# Altium integrated library TI_Logic_Specialty_Logic.IntLib: 2504 symbols (part 34 of 81)
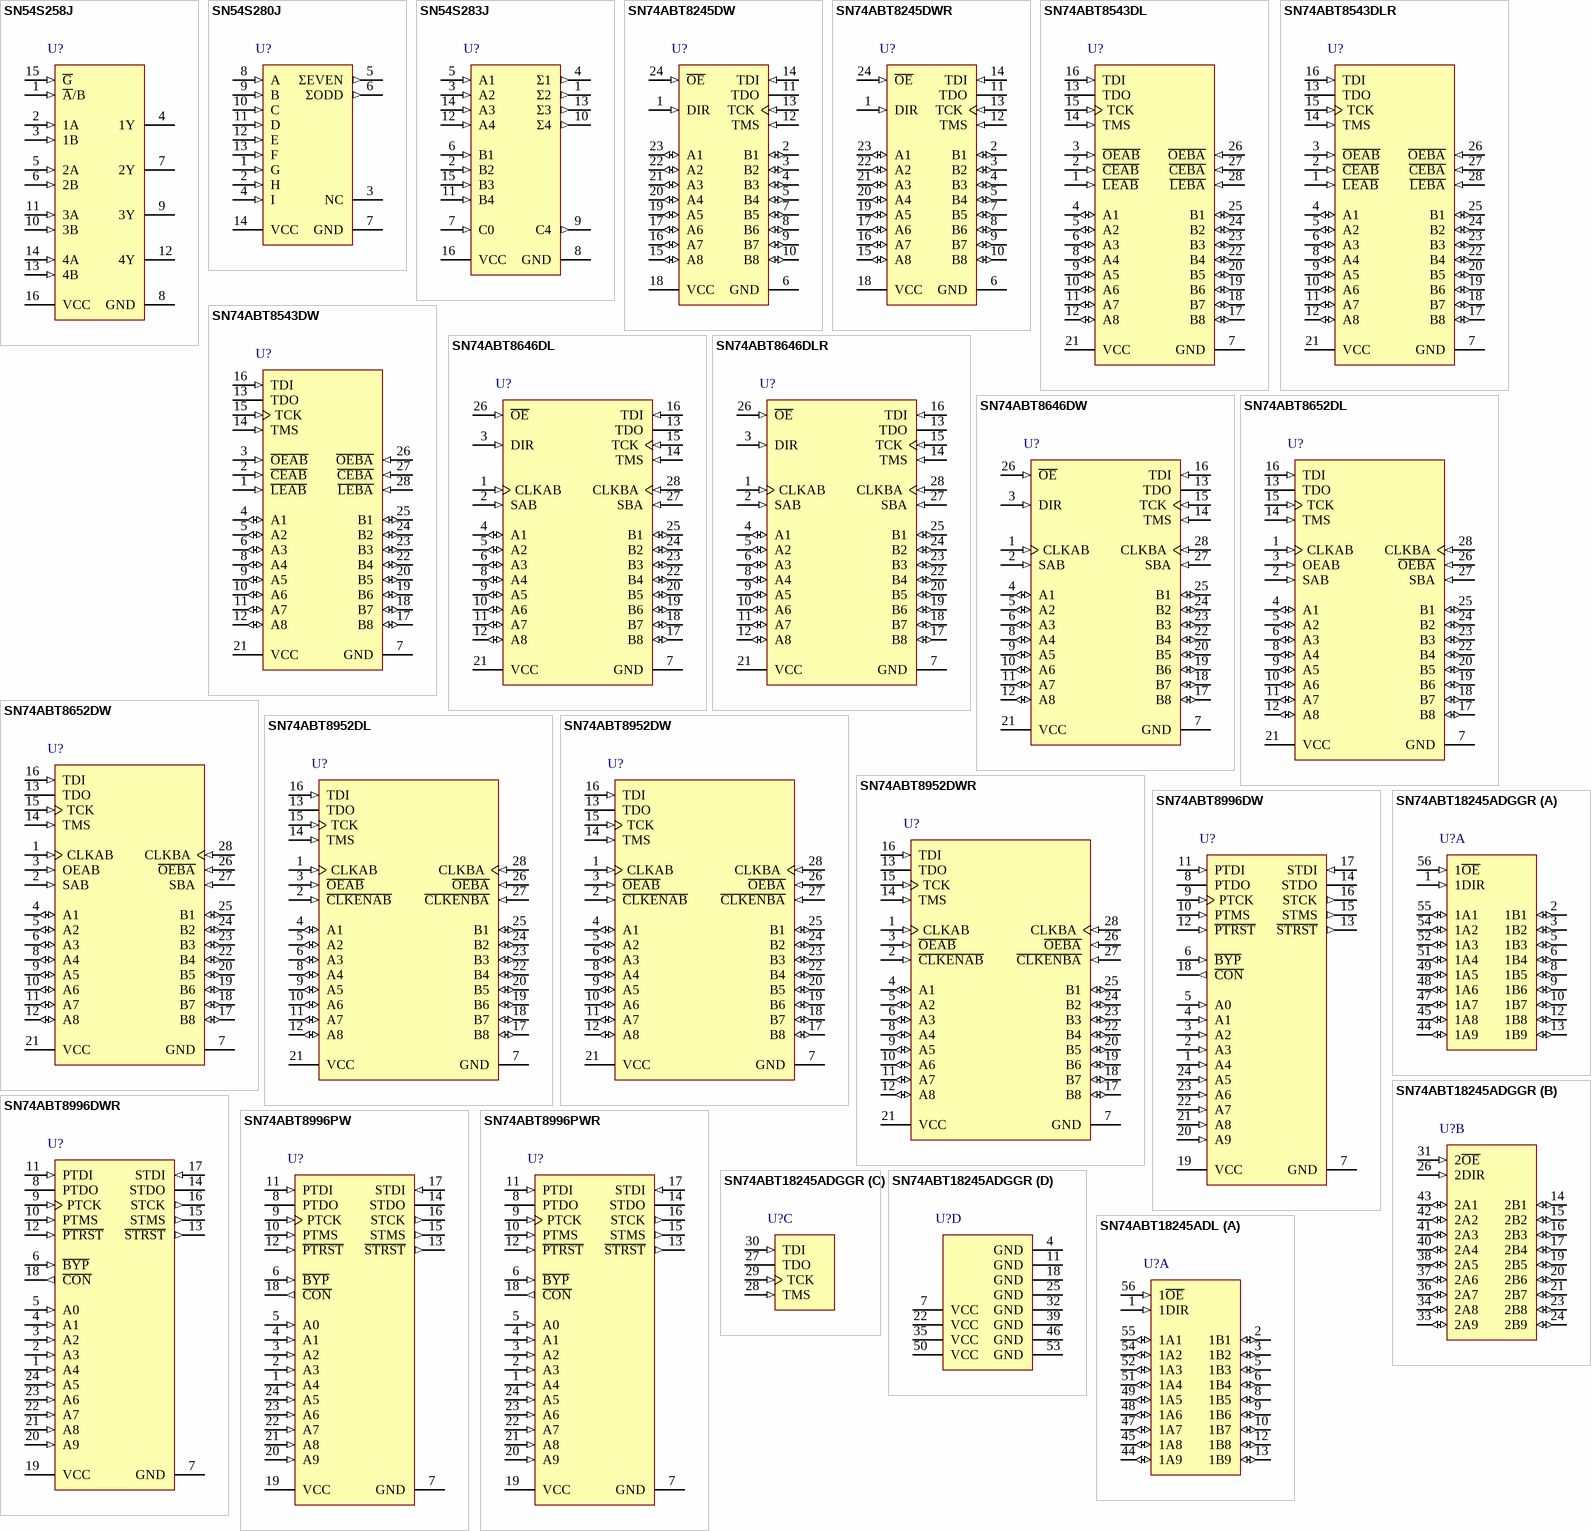
[diagram p137: symbols SN54S258J to SN74ABT18245ADL]

## SN74ABT8652DL
designator U?
Scan Test Devices With Octal Bus Transceivers And Registers, DL0028A, TUBE; Generic Part Number: SN74ABT8652; Manufacturer: Texas Instruments; PartNumber: SN74ABT8652DL; VCC(Min)(V): 4.5; VCC(Max)(V): 5.5; Output Type: TTL; ICC @ Nom Voltage(Max)(mA): 38; Bits(#): 8; F @ Nom Voltage(Max)(Mhz): 150; Rating: Catalog; Technology Family: ABT; Voltage(Nom)(V): 5; Output Drive (IOL/IOH)(Max)(mA): 64/-32; Output Logic: True; tpd @ Nom Voltage(Max)(ns): 6; DatasheetVersion: SCBS122F; PackageReference: DL0028A; Supplier 1: Mouser; Supplier Part Number 1: 595-SN74ABT8652DL; Supplier 2: Digi-Key; Supplier Part Number 2: 296-4114-5-ND; Input Type: TTL; Operating Temperature Range(C): -40 to 85; ComponentLink1Description: Manufacturer URL; ComponentLink1URL: http://www.ti.com/; ComponentLink2Description: Datasheet; ComponentLink2URL: http://www.ti.com/lit/ds/symlink/sn74abt8652.pdf
footprint DL0028A_N (SOP, 28-Leads, Body 7.6x9.7mm, Pitch 0.635mm, IPC Medium Density)
footprint DL0028A_M (SOP, 28-Leads, Body 7.6x9.7mm, Pitch 0.635mm, IPC Low Density)
footprint DL0028A_L (SOP, 28-Leads, Body 7.6x9.7mm, Pitch 0.635mm, IPC High Density)
pins: 1 CLKAB (in) "Normal-function clock inputs. See function table for normal-mode logic.", 2 SAB (in) "Normal-function select inputs. See function table for normal-mode logic.", 3 OEAB (in) "Normal-function output-enable inputs. See function table for normal-mode logic.", 4 A1 (io) "Normal-function A-bus I/O ports. See function table for normal-mode logic.", 5 A2 (io) "Normal-function A-bus I/O ports. See function table for normal-mode logic.", 6 A3 (io) "Normal-function A-bus I/O ports. See function table for normal-mode logic.", 7 GND (power) "Ground", 8 A4 (io) "Normal-function A-bus I/O ports. See function table for normal-mode logic.", 9 A5 (io) "Normal-function A-bus I/O ports. See function table for normal-mode logic.", 10 A6 (io) "Normal-function A-bus I/O ports. See function table for normal-mode logic.", 11 A7 (io) "Normal-function A-bus I/O ports. See function table for normal-mode logic.", 12 A8 (io) "Normal-function A-bus I/O ports. See function table for normal-mode logic.", 13 TDO (hiz) "Test data output. One of four terminals required by IEEE Standard 1149.1-1990. TDO is the serial output for shifting data through the instruction register or selected data register.", 14 TMS (in) "Test mode select. One of four terminals required by IEEE Standard 1149.1-1990. TMS directs the device through its TAP controller states. An internal pullup forces TMS to a high level if left unconnected.", 15 TCK (in) "Test clock. One of four terminals required by IEEE Standard 1149.1-1990. Test operations of the device are synchronous to TCK. Data is captured on the rising edge of TCK, and outputs change on the falling edge of TCK.", 16 TDI (in) "Test data input. One of four terminals required by IEEE Standard 1149.1-1990. TDI is the serial input for shifting data through the instruction register or selected data register. An internal pullup forces TDI to a high (See Datasheet)", 17 B8 (io) "Normal-function B-bus I/O ports. See function table for normal-mode logic.", 18 B7 (io) "Normal-function B-bus I/O ports. See function table for normal-mode logic.", 19 B6 (io) "Normal-function B-bus I/O ports. See function table for normal-mode logic.", 20 B5 (io) "Normal-function B-bus I/O ports. See function table for normal-mode logic.", 21 VCC (power) "Supply voltage", 22 B4 (io) "Normal-function B-bus I/O ports. See function table for normal-mode logic.", 23 B3 (io) "Normal-function B-bus I/O ports. See function table for normal-mode logic.", 24 B2 (io) "Normal-function B-bus I/O ports. See function table for normal-mode logic.", 25 B1 (io) "Normal-function B-bus I/O ports. See function table for normal-mode logic.", 26 ~{OEBA} (in) "Normal-function output-enable inputs. See function table for normal-mode logic.", 27 SBA (in) "Normal-function select inputs. See function table for normal-mode logic.", 28 CLKBA (in) "Normal-function clock inputs. See function table for normal-mode logic."

## SN74ABT8652DW
designator U?
Scan Test Devices With Octal Bus Transceivers And Registers, DW0028A, TUBE; Generic Part Number: SN74ABT8652; Manufacturer: Texas Instruments; PartNumber: SN74ABT8652DW; VCC(Min)(V): 4.5; VCC(Max)(V): 5.5; Output Type: TTL; ICC @ Nom Voltage(Max)(mA): 38; Bits(#): 8; F @ Nom Voltage(Max)(Mhz): 150; Rating: Catalog; Technology Family: ABT; Voltage(Nom)(V): 5; Output Drive (IOL/IOH)(Max)(mA): 64/-32; Output Logic: True; tpd @ Nom Voltage(Max)(ns): 6; DatasheetVersion: SCBS122F; PackageReference: DW0028A; Supplier 1: Mouser; Supplier Part Number 1: 595-SN74ABT8652DW; Supplier 2: Digi-Key; Supplier Part Number 2: 296-33634-5-ND; Input Type: TTL; Operating Temperature Range(C): -40 to 85; ComponentLink1Description: Manufacturer URL; ComponentLink1URL: http://www.ti.com/; ComponentLink2Description: Datasheet; ComponentLink2URL: http://www.ti.com/lit/ds/symlink/sn74abt8652.pdf
footprint DW0028A_N (SOIC, 28-Leads, Body 18.1x7.6mm, Pitch 1.27mm, IPC Medium Density)
footprint DW0028A_M (SOIC, 28-Leads, Body 18.1x7.6mm, Pitch 1.27mm, IPC Low Density)
footprint DW0028A_L (SOIC, 28-Leads, Body 18.1x7.6mm, Pitch 1.27mm, IPC High Density)
pins: 1 CLKAB (in) "Normal-function clock inputs. See function table for normal-mode logic.", 2 SAB (in) "Normal-function select inputs. See function table for normal-mode logic.", 3 OEAB (in) "Normal-function output-enable inputs. See function table for normal-mode logic.", 4 A1 (io) "Normal-function A-bus I/O ports. See function table for normal-mode logic.", 5 A2 (io) "Normal-function A-bus I/O ports. See function table for normal-mode logic.", 6 A3 (io) "Normal-function A-bus I/O ports. See function table for normal-mode logic.", 7 GND (power) "Ground", 8 A4 (io) "Normal-function A-bus I/O ports. See function table for normal-mode logic.", 9 A5 (io) "Normal-function A-bus I/O ports. See function table for normal-mode logic.", 10 A6 (io) "Normal-function A-bus I/O ports. See function table for normal-mode logic.", 11 A7 (io) "Normal-function A-bus I/O ports. See function table for normal-mode logic.", 12 A8 (io) "Normal-function A-bus I/O ports. See function table for normal-mode logic.", 13 TDO (hiz) "Test data output. One of four terminals required by IEEE Standard 1149.1-1990. TDO is the serial output for shifting data through the instruction register or selected data register.", 14 TMS (in) "Test mode select. One of four terminals required by IEEE Standard 1149.1-1990. TMS directs the device through its TAP controller states. An internal pullup forces TMS to a high level if left unconnected.", 15 TCK (in) "Test clock. One of four terminals required by IEEE Standard 1149.1-1990. Test operations of the device are synchronous to TCK. Data is captured on the rising edge of TCK, and outputs change on the falling edge of TCK.", 16 TDI (in) "Test data input. One of four terminals required by IEEE Standard 1149.1-1990. TDI is the serial input for shifting data through the instruction register or selected data register. An internal pullup forces TDI to a high (See Datasheet)", 17 B8 (io) "Normal-function B-bus I/O ports. See function table for normal-mode logic.", 18 B7 (io) "Normal-function B-bus I/O ports. See function table for normal-mode logic.", 19 B6 (io) "Normal-function B-bus I/O ports. See function table for normal-mode logic.", 20 B5 (io) "Normal-function B-bus I/O ports. See function table for normal-mode logic.", 21 VCC (power) "Supply voltage", 22 B4 (io) "Normal-function B-bus I/O ports. See function table for normal-mode logic.", 23 B3 (io) "Normal-function B-bus I/O ports. See function table for normal-mode logic.", 24 B2 (io) "Normal-function B-bus I/O ports. See function table for normal-mode logic.", 25 B1 (io) "Normal-function B-bus I/O ports. See function table for normal-mode logic.", 26 ~{OEBA} (in) "Normal-function output-enable inputs. See function table for normal-mode logic.", 27 SBA (in) "Normal-function select inputs. See function table for normal-mode logic.", 28 CLKBA (in) "Normal-function clock inputs. See function table for normal-mode logic."

## SN74ABT8952DL
designator U?
Scan Test Devices With Octal Registered Bus Transceivers, DL0028A, TUBE; Generic Part Number: SN74ABT8952; Manufacturer: Texas Instruments; PartNumber: SN74ABT8952DL; VCC(Min)(V): 4.5; VCC(Max)(V): 5.5; Output Type: TTL; ICC @ Nom Voltage(Max)(mA): 38; Bits(#): 8; F @ Nom Voltage(Max)(Mhz): 150; Rating: Catalog; Technology Family: ABT; Voltage(Nom)(V): 5; Output Drive (IOL/IOH)(Max)(mA): 64/-32; Output Logic: True; tpd @ Nom Voltage(Max)(ns): 6.3; DatasheetVersion: SCBS121D; PackageReference: DL0028A; Supplier 1: Mouser; Supplier Part Number 1: 595-SN74ABT8952DL; Supplier 2: Digi-Key; Supplier Part Number 2: 296-4115-5-ND; Input Type: TTL; Operating Temperature Range(C): -40 to 85; ComponentLink1Description: Manufacturer URL; ComponentLink1URL: http://www.ti.com/; ComponentLink2Description: Datasheet; ComponentLink2URL: http://www.ti.com/lit/ds/symlink/sn74abt8952.pdf
footprint DL0028A_N (SOP, 28-Leads, Body 7.6x9.7mm, Pitch 0.635mm, IPC Medium Density)
footprint DL0028A_M (SOP, 28-Leads, Body 7.6x9.7mm, Pitch 0.635mm, IPC Low Density)
footprint DL0028A_L (SOP, 28-Leads, Body 7.6x9.7mm, Pitch 0.635mm, IPC High Density)
pins: 1 CLKAB (in) "Normal-function clock inputs. See function table for normal-mode logic.", 2 ~{CLKENAB} (in) "Normal-function clock-enable inputs. See function table for normal-mode logic.", 3 ~{OEAB} (in) "Normal-function output-enable inputs. See function table for normal-mode logic.", 4 A1 (io) "Normal-function A-bus I/O ports. See function table for normal-mode logic.", 5 A2 (io) "Normal-function A-bus I/O ports. See function table for normal-mode logic.", 6 A3 (io) "Normal-function A-bus I/O ports. See function table for normal-mode logic.", 7 GND (power) "Ground", 8 A4 (io) "Normal-function A-bus I/O ports. See function table for normal-mode logic.", 9 A5 (io) "Normal-function A-bus I/O ports. See function table for normal-mode logic.", 10 A6 (io) "Normal-function A-bus I/O ports. See function table for normal-mode logic.", 11 A7 (io) "Normal-function A-bus I/O ports. See function table for normal-mode logic.", 12 A8 (io) "Normal-function A-bus I/O ports. See function table for normal-mode logic.", 13 TDO (hiz) "Test data output. One of four pins required by IEEE Standard 1149.1-1990. TDO is the serial output for shifting data through the instruction register or selected data register.", 14 TMS (in) "Test mode select. One of four pins required by IEEE Standard 1149.1-1990. TMS directs the device through its TAP controller states. An internal pullup forces TMS to a high level if left unconnected.", 15 TCK (in) "Test clock. One of four pins required by IEEE Standard 1149.1-1990. Test operations of the device are synchronous to TCK. Data is captured on the rising edge of TCK and outputs change on the falling edge of TCK.", 16 TDI (in) "Test data input. One of four pins required by IEEE Standard 1149.1-1990. TDI is the serial input for shifting data through the instruction register or selected data register. An internal pullup forces TDI to a high level if (See Datasheet)", 17 B8 (io) "Normal-function B-bus I/O ports. See function table for normal-mode logic.", 18 B7 (io) "Normal-function B-bus I/O ports. See function table for normal-mode logic.", 19 B6 (io) "Normal-function B-bus I/O ports. See function table for normal-mode logic.", 20 B5 (io) "Normal-function B-bus I/O ports. See function table for normal-mode logic.", 21 VCC (power) "Supply voltage", 22 B4 (io) "Normal-function B-bus I/O ports. See function table for normal-mode logic.", 23 B3 (io) "Normal-function B-bus I/O ports. See function table for normal-mode logic.", 24 B2 (io) "Normal-function B-bus I/O ports. See function table for normal-mode logic.", 25 B1 (io) "Normal-function B-bus I/O ports. See function table for normal-mode logic.", 26 ~{OEBA} (in) "Normal-function output-enable inputs. See function table for normal-mode logic.", 27 ~{CLKENBA} (in) "Normal-function clock-enable inputs. See function table for normal-mode logic.", 28 CLKBA (in) "Normal-function clock inputs. See function table for normal-mode logic."

## SN74ABT8952DW
designator U?
Scan Test Devices With Octal Registered Bus Transceivers, DW0028A, TUBE; Generic Part Number: SN74ABT8952; Manufacturer: Texas Instruments; PartNumber: SN74ABT8952DW; VCC(Min)(V): 4.5; VCC(Max)(V): 5.5; Output Type: TTL; ICC @ Nom Voltage(Max)(mA): 38; Bits(#): 8; F @ Nom Voltage(Max)(Mhz): 150; Rating: Catalog; Technology Family: ABT; Voltage(Nom)(V): 5; Output Drive (IOL/IOH)(Max)(mA): 64/-32; Output Logic: True; tpd @ Nom Voltage(Max)(ns): 6.3; DatasheetVersion: SCBS121D; PackageReference: DW0028A; Supplier 1: Mouser; Supplier Part Number 1: 595-SN74ABT8952DW; Supplier 2: Digi-Key; Supplier Part Number 2: 296-4116-5-ND; Input Type: TTL; Operating Temperature Range(C): -40 to 85; ComponentLink1Description: Manufacturer URL; ComponentLink1URL: http://www.ti.com/; ComponentLink2Description: Datasheet; ComponentLink2URL: http://www.ti.com/lit/ds/symlink/sn74abt8952.pdf
footprint DW0028A_N (SOIC, 28-Leads, Body 18.1x7.6mm, Pitch 1.27mm, IPC Medium Density)
footprint DW0028A_M (SOIC, 28-Leads, Body 18.1x7.6mm, Pitch 1.27mm, IPC Low Density)
footprint DW0028A_L (SOIC, 28-Leads, Body 18.1x7.6mm, Pitch 1.27mm, IPC High Density)
pins: 1 CLKAB (in) "Normal-function clock inputs. See function table for normal-mode logic.", 2 ~{CLKENAB} (in) "Normal-function clock-enable inputs. See function table for normal-mode logic.", 3 ~{OEAB} (in) "Normal-function output-enable inputs. See function table for normal-mode logic.", 4 A1 (io) "Normal-function A-bus I/O ports. See function table for normal-mode logic.", 5 A2 (io) "Normal-function A-bus I/O ports. See function table for normal-mode logic.", 6 A3 (io) "Normal-function A-bus I/O ports. See function table for normal-mode logic.", 7 GND (power) "Ground", 8 A4 (io) "Normal-function A-bus I/O ports. See function table for normal-mode logic.", 9 A5 (io) "Normal-function A-bus I/O ports. See function table for normal-mode logic.", 10 A6 (io) "Normal-function A-bus I/O ports. See function table for normal-mode logic.", 11 A7 (io) "Normal-function A-bus I/O ports. See function table for normal-mode logic.", 12 A8 (io) "Normal-function A-bus I/O ports. See function table for normal-mode logic.", 13 TDO (hiz) "Test data output. One of four pins required by IEEE Standard 1149.1-1990. TDO is the serial output for shifting data through the instruction register or selected data register.", 14 TMS (in) "Test mode select. One of four pins required by IEEE Standard 1149.1-1990. TMS directs the device through its TAP controller states. An internal pullup forces TMS to a high level if left unconnected.", 15 TCK (in) "Test clock. One of four pins required by IEEE Standard 1149.1-1990. Test operations of the device are synchronous to TCK. Data is captured on the rising edge of TCK and outputs change on the falling edge of TCK.", 16 TDI (in) "Test data input. One of four pins required by IEEE Standard 1149.1-1990. TDI is the serial input for shifting data through the instruction register or selected data register. An internal pullup forces TDI to a high level if (See Datasheet)", 17 B8 (io) "Normal-function B-bus I/O ports. See function table for normal-mode logic.", 18 B7 (io) "Normal-function B-bus I/O ports. See function table for normal-mode logic.", 19 B6 (io) "Normal-function B-bus I/O ports. See function table for normal-mode logic.", 20 B5 (io) "Normal-function B-bus I/O ports. See function table for normal-mode logic.", 21 VCC (power) "Supply voltage", 22 B4 (io) "Normal-function B-bus I/O ports. See function table for normal-mode logic.", 23 B3 (io) "Normal-function B-bus I/O ports. See function table for normal-mode logic.", 24 B2 (io) "Normal-function B-bus I/O ports. See function table for normal-mode logic.", 25 B1 (io) "Normal-function B-bus I/O ports. See function table for normal-mode logic.", 26 ~{OEBA} (in) "Normal-function output-enable inputs. See function table for normal-mode logic.", 27 ~{CLKENBA} (in) "Normal-function clock-enable inputs. See function table for normal-mode logic.", 28 CLKBA (in) "Normal-function clock inputs. See function table for normal-mode logic."

## SN74ABT8952DWR
designator U?
Scan Test Devices With Octal Registered Bus Transceivers, DW0028A, LARGE T&R; Generic Part Number: SN74ABT8952; Manufacturer: Texas Instruments; PartNumber: SN74ABT8952DWR; VCC(Min)(V): 4.5; VCC(Max)(V): 5.5; Output Type: TTL; ICC @ Nom Voltage(Max)(mA): 38; Bits(#): 8; F @ Nom Voltage(Max)(Mhz): 150; Rating: Catalog; Technology Family: ABT; Voltage(Nom)(V): 5; Output Drive (IOL/IOH)(Max)(mA): 64/-32; Output Logic: True; tpd @ Nom Voltage(Max)(ns): 6.3; DatasheetVersion: SCBS121D; PackageReference: DW0028A; Supplier 1: Mouser; Supplier Part Number 1: 595-SN74ABT8952DWR; Supplier 2: Digi-Key; Supplier Part Number 2: 296-29238-2-ND; Supplier 3: Digi-Key; Supplier Part Number 3: 296-29238-1-ND; Supplier 4: Digi-Key; Supplier Part Number 4: 296-29238-6-ND; Input Type: TTL; Operating Temperature Range(C): -40 to 85; ComponentLink1Description: Manufacturer URL; ComponentLink1URL: http://www.ti.com/; ComponentLink2Description: Datasheet; ComponentLink2URL: http://www.ti.com/lit/ds/symlink/sn74abt8952.pdf
footprint DW0028A_N (SOIC, 28-Leads, Body 18.1x7.6mm, Pitch 1.27mm, IPC Medium Density)
footprint DW0028A_M (SOIC, 28-Leads, Body 18.1x7.6mm, Pitch 1.27mm, IPC Low Density)
footprint DW0028A_L (SOIC, 28-Leads, Body 18.1x7.6mm, Pitch 1.27mm, IPC High Density)
pins: 1 CLKAB (in) "Normal-function clock inputs. See function table for normal-mode logic.", 2 ~{CLKENAB} (in) "Normal-function clock-enable inputs. See function table for normal-mode logic.", 3 ~{OEAB} (in) "Normal-function output-enable inputs. See function table for normal-mode logic.", 4 A1 (io) "Normal-function A-bus I/O ports. See function table for normal-mode logic.", 5 A2 (io) "Normal-function A-bus I/O ports. See function table for normal-mode logic.", 6 A3 (io) "Normal-function A-bus I/O ports. See function table for normal-mode logic.", 7 GND (power) "Ground", 8 A4 (io) "Normal-function A-bus I/O ports. See function table for normal-mode logic.", 9 A5 (io) "Normal-function A-bus I/O ports. See function table for normal-mode logic.", 10 A6 (io) "Normal-function A-bus I/O ports. See function table for normal-mode logic.", 11 A7 (io) "Normal-function A-bus I/O ports. See function table for normal-mode logic.", 12 A8 (io) "Normal-function A-bus I/O ports. See function table for normal-mode logic.", 13 TDO (hiz) "Test data output. One of four pins required by IEEE Standard 1149.1-1990. TDO is the serial output for shifting data through the instruction register or selected data register.", 14 TMS (in) "Test mode select. One of four pins required by IEEE Standard 1149.1-1990. TMS directs the device through its TAP controller states. An internal pullup forces TMS to a high level if left unconnected.", 15 TCK (in) "Test clock. One of four pins required by IEEE Standard 1149.1-1990. Test operations of the device are synchronous to TCK. Data is captured on the rising edge of TCK and outputs change on the falling edge of TCK.", 16 TDI (in) "Test data input. One of four pins required by IEEE Standard 1149.1-1990. TDI is the serial input for shifting data through the instruction register or selected data register. An internal pullup forces TDI to a high level if (See Datasheet)", 17 B8 (io) "Normal-function B-bus I/O ports. See function table for normal-mode logic.", 18 B7 (io) "Normal-function B-bus I/O ports. See function table for normal-mode logic.", 19 B6 (io) "Normal-function B-bus I/O ports. See function table for normal-mode logic.", 20 B5 (io) "Normal-function B-bus I/O ports. See function table for normal-mode logic.", 21 VCC (power) "Supply voltage", 22 B4 (io) "Normal-function B-bus I/O ports. See function table for normal-mode logic.", 23 B3 (io) "Normal-function B-bus I/O ports. See function table for normal-mode logic.", 24 B2 (io) "Normal-function B-bus I/O ports. See function table for normal-mode logic.", 25 B1 (io) "Normal-function B-bus I/O ports. See function table for normal-mode logic.", 26 ~{OEBA} (in) "Normal-function output-enable inputs. See function table for normal-mode logic.", 27 ~{CLKENBA} (in) "Normal-function clock-enable inputs. See function table for normal-mode logic.", 28 CLKBA (in) "Normal-function clock inputs. See function table for normal-mode logic."

## SN74ABT8996DW
designator U?
10-Bit Addressable Scan Ports Multidrop-Addressable IEEE STD 1194.1 (JTAG) TAP Transceivers, DW0024A, TUBE; Generic Part Number: SN74ABT8996; Manufacturer: Texas Instruments; PartNumber: SN74ABT8996DW; VCC(Min)(V): 4.5; VCC(Max)(V): 5.5; Output Type: TTL; Rating: Catalog; Technology Family: ABT; DatasheetVersion: SCBS489C; PackageReference: DW0024A; Supplier 1: Mouser; Supplier Part Number 1: 595-SN74ABT8996DW; Supplier 2: Digi-Key; Supplier Part Number 2: 296-4117-5-ND; Input Type: TTL; Operating Temperature Range(C): -40 to 85; ComponentLink1Description: Manufacturer URL; ComponentLink1URL: http://www.ti.com/; ComponentLink2Description: Datasheet; ComponentLink2URL: http://www.ti.com/lit/ds/symlink/sn74abt8996.pdf
footprint DW0024A_N (SOIC, 24-Leads, Body 15.6x7.6mm, Pitch 1.27mm, IPC Medium Density)
footprint DW0024A_M (SOIC, 24-Leads, Body 15.6x7.6mm, Pitch 1.27mm, IPC Low Density)
footprint DW0024A_L (SOIC, 24-Leads, Body 15.6x7.6mm, Pitch 1.27mm, IPC High Density)
pins: 1 A4 (in) "Address inputs. The ASP compares addresses received via shadow protocol against the value at A9-A0 to determine address match. The bit order is from most significant to least significant. An internal pullup at each A9-A0 (See Datasheet)", 2 A3 (in) "Address inputs. The ASP compares addresses received via shadow protocol against the value at A9-A0 to determine address match. The bit order is from most significant to least significant. An internal pullup at each A9-A0 (See Datasheet)", 3 A2 (in) "Address inputs. The ASP compares addresses received via shadow protocol against the value at A9-A0 to determine address match. The bit order is from most significant to least significant. An internal pullup at each A9-A0 (See Datasheet)", 4 A1 (in) "Address inputs. The ASP compares addresses received via shadow protocol against the value at A9-A0 to determine address match. The bit order is from most significant to least significant. An internal pullup at each A9-A0 (See Datasheet)", 5 A0 (in) "Address inputs. The ASP compares addresses received via shadow protocol against the value at A9-A0 to determine address match. The bit order is from most significant to least significant. An internal pullup at each A9-A0 (See Datasheet)", 6 ~{BYP} (in) "Bypass input. A low input at B\Y\P\ forces the ASP into BYP or BYP/TRST status, depending on P\T\R\S\T\ being high or low, respectively. While B\Y\P\ is low, shadow protocols are ignored. Otherwise, while B\Y\P\ is high, the (See Datasheet)", 7 GND (power) "Ground", 8 PTDO (hiz) "Primary test data output. PTDO transmits the TDO signal required by IEEE Standard 1149.1-1990. During shadow protocols, the ASP transmits any required acknowledgement via the PTDO. The acknowledgement data output at PTDO (See Datasheet)", 9 PTCK (in) "Primary test clock. PTCK receives the TCK signal required by IEEE Standard 1149.1-1990. The ASP always buffers PTCK to STCK. Shadow protocols are received/acknowledged synchronously to PTCK and connect-status changes invoked (See Datasheet)", 10 PTMS (in) "Primary test mode select. PTMS receives the TMS signal required by IEEE Standard 1149.1-1990. The ASP monitors the PTMS to determine the TAP-controller state. During stable TAP states other than Shift-DR or Shift-IR (i.e.(See Datasheet)", 11 PTDI (in) "Primary test data input. PTDI receives the TDI signal required by IEEE Standard 1149.1-1990. During appropriate TAP states, the ASP monitors PTDI for shadow protocols. During shadow protocols, data at PTDI is captured on the (See Datasheet)", 12 ~{PTRST} (in) "Primary test reset. P\T\R\S\T\ receives the T\R\S\T\ signal allowed by IEEE Standard 1149.1-1990. The ASP always buffers P\T\R\S\T\ to S\T\R\S\T\. A low input at PTRST forces the ASP to assume TRST or BYP/TRST status, (See Datasheet)", 13 ~{STRST} (out) "Secondary test reset. S\T\R\S\T\ retransmits the T\R\S\T\ signal allowed by IEEE Standard 1149.1-1990. The ASP always buffers S\T\R\S\T\ from P\T\R\S\T\.", 14 STDO (hiz) "Secondary test data output. STDO transmits the TDO signal required by IEEE Standard 1149.1-1990. Under BYP,BYP/TRST, MULTICAST, or ON status, the ASP buffers STDO from PTDI. Under OFF, RESET, or TRST status, STDO is at high (See Datasheet)", 15 STMS (out) "Secondary test mode select. STMS retransmits the TMS signal required by IEEE Standard 1149.1-1990. Under BYP,MULTICAST, or ON status, the ASP buffers STMS from PTMS. When disconnected (as a result of OFF status), STMS (See Datasheet)", 16 STCK (out) "Secondary test clock. STCK retransmits the TCK signal required by IEEE Standard 1149.1-1990. The ASP always buffers STCK from PTCK.", 17 STDI (in) "Secondary test data input. STDI receives the TDI signal required by IEEE Standard 1149.1-1990. Under BYP,BYP/TRST, or ON status, the ASP buffers STDI to PTDO. An internal pullup forces STDI to a high level if it has no (See Datasheet)", 18 ~{CON} (out) "Connect indicator (output). The ASP indicates secondary-scan-port activity (resulting from BYP, BYP/TRST,MULTICAST, or ON status) by forcing CON to be low. Inactivity (resulting from OFF, RESET, or TRST status) is indicated (See Datasheet)", 19 VCC (power) "Supply voltage", 20 A9 (in) "Address inputs. The ASP compares addresses received via shadow protocol against the value at A9-A0 to determine address match. The bit order is from most significant to least significant. An internal pullup at each A9-A0 (See Datasheet)", 21 A8 (in) "Address inputs. The ASP compares addresses received via shadow protocol against the value at A9-A0 to determine address match. The bit order is from most significant to least significant. An internal pullup at each A9-A0 (See Datasheet)", 22 A7 (in) "Address inputs. The ASP compares addresses received via shadow protocol against the value at A9-A0 to determine address match. The bit order is from most significant to least significant. An internal pullup at each A9-A0 (See Datasheet)", 23 A6 (in) "Address inputs. The ASP compares addresses received via shadow protocol against the value at A9-A0 to determine address match. The bit order is from most significant to least significant. An internal pullup at each A9-A0 (See Datasheet)", 24 A5 (in) "Address inputs. The ASP compares addresses received via shadow protocol against the value at A9-A0 to determine address match. The bit order is from most significant to least significant. An internal pullup at each A9-A0 (See Datasheet)"

## SN74ABT8996DWR
designator U?
10-Bit Addressable Scan Ports Multidrop-Addressable IEEE STD 1194.1 (JTAG) TAP Transceivers, DW0024A, LARGE T&R; Generic Part Number: SN74ABT8996; Manufacturer: Texas Instruments; PartNumber: SN74ABT8996DWR; VCC(Min)(V): 4.5; VCC(Max)(V): 5.5; Output Type: TTL; Rating: Catalog; Technology Family: ABT; DatasheetVersion: SCBS489C; PackageReference: DW0024A; Supplier 1: Mouser; Supplier Part Number 1: 595-SN74ABT8996DWR; Supplier 2: Digi-Key; Supplier Part Number 2: 296-4117-2-ND; Supplier 3: Digi-Key; Supplier Part Number 3: 296-4117-1-ND; Supplier 4: Digi-Key; Supplier Part Number 4: 296-4117-6-ND; Input Type: TTL; Operating Temperature Range(C): -40 to 85; ComponentLink1Description: Manufacturer URL; ComponentLink1URL: http://www.ti.com/; ComponentLink2Description: Datasheet; ComponentLink2URL: http://www.ti.com/lit/ds/symlink/sn74abt8996.pdf
footprint DW0024A_N (SOIC, 24-Leads, Body 15.6x7.6mm, Pitch 1.27mm, IPC Medium Density)
footprint DW0024A_M (SOIC, 24-Leads, Body 15.6x7.6mm, Pitch 1.27mm, IPC Low Density)
footprint DW0024A_L (SOIC, 24-Leads, Body 15.6x7.6mm, Pitch 1.27mm, IPC High Density)
pins: 1 A4 (in) "Address inputs. The ASP compares addresses received via shadow protocol against the value at A9-A0 to determine address match. The bit order is from most significant to least significant. An internal pullup at each A9-A0 (See Datasheet)", 2 A3 (in) "Address inputs. The ASP compares addresses received via shadow protocol against the value at A9-A0 to determine address match. The bit order is from most significant to least significant. An internal pullup at each A9-A0 (See Datasheet)", 3 A2 (in) "Address inputs. The ASP compares addresses received via shadow protocol against the value at A9-A0 to determine address match. The bit order is from most significant to least significant. An internal pullup at each A9-A0 (See Datasheet)", 4 A1 (in) "Address inputs. The ASP compares addresses received via shadow protocol against the value at A9-A0 to determine address match. The bit order is from most significant to least significant. An internal pullup at each A9-A0 (See Datasheet)", 5 A0 (in) "Address inputs. The ASP compares addresses received via shadow protocol against the value at A9-A0 to determine address match. The bit order is from most significant to least significant. An internal pullup at each A9-A0 (See Datasheet)", 6 ~{BYP} (in) "Bypass input. A low input at B\Y\P\ forces the ASP into BYP or BYP/TRST status, depending on P\T\R\S\T\ being high or low, respectively. While B\Y\P\ is low, shadow protocols are ignored. Otherwise, while B\Y\P\ is high, the (See Datasheet)", 7 GND (power) "Ground", 8 PTDO (hiz) "Primary test data output. PTDO transmits the TDO signal required by IEEE Standard 1149.1-1990. During shadow protocols, the ASP transmits any required acknowledgement via the PTDO. The acknowledgement data output at PTDO (See Datasheet)", 9 PTCK (in) "Primary test clock. PTCK receives the TCK signal required by IEEE Standard 1149.1-1990. The ASP always buffers PTCK to STCK. Shadow protocols are received/acknowledged synchronously to PTCK and connect-status changes invoked (See Datasheet)", 10 PTMS (in) "Primary test mode select. PTMS receives the TMS signal required by IEEE Standard 1149.1-1990. The ASP monitors the PTMS to determine the TAP-controller state. During stable TAP states other than Shift-DR or Shift-IR (i.e.(See Datasheet)", 11 PTDI (in) "Primary test data input. PTDI receives the TDI signal required by IEEE Standard 1149.1-1990. During appropriate TAP states, the ASP monitors PTDI for shadow protocols. During shadow protocols, data at PTDI is captured on the (See Datasheet)", 12 ~{PTRST} (in) "Primary test reset. P\T\R\S\T\ receives the T\R\S\T\ signal allowed by IEEE Standard 1149.1-1990. The ASP always buffers P\T\R\S\T\ to S\T\R\S\T\. A low input at PTRST forces the ASP to assume TRST or BYP/TRST status, (See Datasheet)", 13 ~{STRST} (out) "Secondary test reset. S\T\R\S\T\ retransmits the T\R\S\T\ signal allowed by IEEE Standard 1149.1-1990. The ASP always buffers S\T\R\S\T\ from P\T\R\S\T\.", 14 STDO (hiz) "Secondary test data output. STDO transmits the TDO signal required by IEEE Standard 1149.1-1990. Under BYP,BYP/TRST, MULTICAST, or ON status, the ASP buffers STDO from PTDI. Under OFF, RESET, or TRST status, STDO is at high (See Datasheet)", 15 STMS (out) "Secondary test mode select. STMS retransmits the TMS signal required by IEEE Standard 1149.1-1990. Under BYP,MULTICAST, or ON status, the ASP buffers STMS from PTMS. When disconnected (as a result of OFF status), STMS (See Datasheet)", 16 STCK (out) "Secondary test clock. STCK retransmits the TCK signal required by IEEE Standard 1149.1-1990. The ASP always buffers STCK from PTCK.", 17 STDI (in) "Secondary test data input. STDI receives the TDI signal required by IEEE Standard 1149.1-1990. Under BYP,BYP/TRST, or ON status, the ASP buffers STDI to PTDO. An internal pullup forces STDI to a high level if it has no (See Datasheet)", 18 ~{CON} (out) "Connect indicator (output). The ASP indicates secondary-scan-port activity (resulting from BYP, BYP/TRST,MULTICAST, or ON status) by forcing CON to be low. Inactivity (resulting from OFF, RESET, or TRST status) is indicated (See Datasheet)", 19 VCC (power) "Supply voltage", 20 A9 (in) "Address inputs. The ASP compares addresses received via shadow protocol against the value at A9-A0 to determine address match. The bit order is from most significant to least significant. An internal pullup at each A9-A0 (See Datasheet)", 21 A8 (in) "Address inputs. The ASP compares addresses received via shadow protocol against the value at A9-A0 to determine address match. The bit order is from most significant to least significant. An internal pullup at each A9-A0 (See Datasheet)", 22 A7 (in) "Address inputs. The ASP compares addresses received via shadow protocol against the value at A9-A0 to determine address match. The bit order is from most significant to least significant. An internal pullup at each A9-A0 (See Datasheet)", 23 A6 (in) "Address inputs. The ASP compares addresses received via shadow protocol against the value at A9-A0 to determine address match. The bit order is from most significant to least significant. An internal pullup at each A9-A0 (See Datasheet)", 24 A5 (in) "Address inputs. The ASP compares addresses received via shadow protocol against the value at A9-A0 to determine address match. The bit order is from most significant to least significant. An internal pullup at each A9-A0 (See Datasheet)"

## SN74ABT8996PW
designator U?
10-Bit Addressable Scan Ports Multidrop-Addressable IEEE STD 1194.1 (JTAG) TAP Transceivers, PW0024A, TUBE; Generic Part Number: SN74ABT8996; Manufacturer: Texas Instruments; PartNumber: SN74ABT8996PW; VCC(Min)(V): 4.5; VCC(Max)(V): 5.5; Output Type: TTL; Rating: Catalog; Technology Family: ABT; DatasheetVersion: SCBS489C; PackageReference: PW0024A; Supplier 1: Mouser; Supplier Part Number 1: 595-SN74ABT8996PW; Supplier 2: Digi-Key; Supplier Part Number 2: SN74ABT8996PW-ND; Input Type: TTL; Operating Temperature Range(C): -40 to 85; ComponentLink1Description: Manufacturer URL; ComponentLink1URL: http://www.ti.com/; ComponentLink2Description: Datasheet; ComponentLink2URL: http://www.ti.com/lit/ds/symlink/sn74abt8996.pdf
footprint PW0024A_N (SOP, 24-Leads, Body 7.9x4.5mm, Pitch 0.65mm, IPC Medium Density)
footprint PW0024A_M (SOP, 24-Leads, Body 7.9x4.5mm, Pitch 0.65mm, IPC Low Density)
footprint PW0024A_L (SOP, 24-Leads, Body 7.9x4.5mm, Pitch 0.65mm, IPC High Density)
pins: 1 A4 (in) "Address inputs. The ASP compares addresses received via shadow protocol against the value at A9-A0 to determine address match. The bit order is from most significant to least significant. An internal pullup at each A9-A0 (See Datasheet)", 2 A3 (in) "Address inputs. The ASP compares addresses received via shadow protocol against the value at A9-A0 to determine address match. The bit order is from most significant to least significant. An internal pullup at each A9-A0 (See Datasheet)", 3 A2 (in) "Address inputs. The ASP compares addresses received via shadow protocol against the value at A9-A0 to determine address match. The bit order is from most significant to least significant. An internal pullup at each A9-A0 (See Datasheet)", 4 A1 (in) "Address inputs. The ASP compares addresses received via shadow protocol against the value at A9-A0 to determine address match. The bit order is from most significant to least significant. An internal pullup at each A9-A0 (See Datasheet)", 5 A0 (in) "Address inputs. The ASP compares addresses received via shadow protocol against the value at A9-A0 to determine address match. The bit order is from most significant to least significant. An internal pullup at each A9-A0 (See Datasheet)", 6 ~{BYP} (in) "Bypass input. A low input at B\Y\P\ forces the ASP into BYP or BYP/TRST status, depending on P\T\R\S\T\ being high or low, respectively. While B\Y\P\ is low, shadow protocols are ignored. Otherwise, while B\Y\P\ is high, the (See Datasheet)", 7 GND (power) "Ground", 8 PTDO (hiz) "Primary test data output. PTDO transmits the TDO signal required by IEEE Standard 1149.1-1990. During shadow protocols, the ASP transmits any required acknowledgement via the PTDO. The acknowledgement data output at PTDO (See Datasheet)", 9 PTCK (in) "Primary test clock. PTCK receives the TCK signal required by IEEE Standard 1149.1-1990. The ASP always buffers PTCK to STCK. Shadow protocols are received/acknowledged synchronously to PTCK and connect-status changes invoked (See Datasheet)", 10 PTMS (in) "Primary test mode select. PTMS receives the TMS signal required by IEEE Standard 1149.1-1990. The ASP monitors the PTMS to determine the TAP-controller state. During stable TAP states other than Shift-DR or Shift-IR (i.e.(See Datasheet)", 11 PTDI (in) "Primary test data input. PTDI receives the TDI signal required by IEEE Standard 1149.1-1990. During appropriate TAP states, the ASP monitors PTDI for shadow protocols. During shadow protocols, data at PTDI is captured on the (See Datasheet)", 12 ~{PTRST} (in) "Primary test reset. P\T\R\S\T\ receives the T\R\S\T\ signal allowed by IEEE Standard 1149.1-1990. The ASP always buffers P\T\R\S\T\ to S\T\R\S\T\. A low input at PTRST forces the ASP to assume TRST or BYP/TRST status, (See Datasheet)", 13 ~{STRST} (out) "Secondary test reset. S\T\R\S\T\ retransmits the T\R\S\T\ signal allowed by IEEE Standard 1149.1-1990. The ASP always buffers S\T\R\S\T\ from P\T\R\S\T\.", 14 STDO (hiz) "Secondary test data output. STDO transmits the TDO signal required by IEEE Standard 1149.1-1990. Under BYP,BYP/TRST, MULTICAST, or ON status, the ASP buffers STDO from PTDI. Under OFF, RESET, or TRST status, STDO is at high (See Datasheet)", 15 STMS (out) "Secondary test mode select. STMS retransmits the TMS signal required by IEEE Standard 1149.1-1990. Under BYP,MULTICAST, or ON status, the ASP buffers STMS from PTMS. When disconnected (as a result of OFF status), STMS (See Datasheet)", 16 STCK (out) "Secondary test clock. STCK retransmits the TCK signal required by IEEE Standard 1149.1-1990. The ASP always buffers STCK from PTCK.", 17 STDI (in) "Secondary test data input. STDI receives the TDI signal required by IEEE Standard 1149.1-1990. Under BYP,BYP/TRST, or ON status, the ASP buffers STDI to PTDO. An internal pullup forces STDI to a high level if it has no (See Datasheet)", 18 ~{CON} (out) "Connect indicator (output). The ASP indicates secondary-scan-port activity (resulting from BYP, BYP/TRST,MULTICAST, or ON status) by forcing CON to be low. Inactivity (resulting from OFF, RESET, or TRST status) is indicated (See Datasheet)", 19 VCC (power) "Supply voltage", 20 A9 (in) "Address inputs. The ASP compares addresses received via shadow protocol against the value at A9-A0 to determine address match. The bit order is from most significant to least significant. An internal pullup at each A9-A0 (See Datasheet)", 21 A8 (in) "Address inputs. The ASP compares addresses received via shadow protocol against the value at A9-A0 to determine address match. The bit order is from most significant to least significant. An internal pullup at each A9-A0 (See Datasheet)", 22 A7 (in) "Address inputs. The ASP compares addresses received via shadow protocol against the value at A9-A0 to determine address match. The bit order is from most significant to least significant. An internal pullup at each A9-A0 (See Datasheet)", 23 A6 (in) "Address inputs. The ASP compares addresses received via shadow protocol against the value at A9-A0 to determine address match. The bit order is from most significant to least significant. An internal pullup at each A9-A0 (See Datasheet)", 24 A5 (in) "Address inputs. The ASP compares addresses received via shadow protocol against the value at A9-A0 to determine address match. The bit order is from most significant to least significant. An internal pullup at each A9-A0 (See Datasheet)"

## SN74ABT8996PWR
designator U?
10-Bit Addressable Scan Ports Multidrop-Addressable IEEE STD 1194.1 (JTAG) TAP Transceivers, PW0024A, LARGE T&R; Generic Part Number: SN74ABT8996; Manufacturer: Texas Instruments; PartNumber: SN74ABT8996PWR; VCC(Min)(V): 4.5; VCC(Max)(V): 5.5; Output Type: TTL; Rating: Catalog; Technology Family: ABT; DatasheetVersion: SCBS489C; PackageReference: PW0024A; Supplier 1: Mouser; Supplier Part Number 1: 595-SN74ABT8996PWR; Supplier 2: Digi-Key; Supplier Part Number 2: 296-4118-2-ND; Supplier 3: Digi-Key; Supplier Part Number 3: 296-4118-1-ND; Supplier 4: Digi-Key; Supplier Part Number 4: 296-4118-6-ND; Input Type: TTL; Operating Temperature Range(C): -40 to 85; ComponentLink1Description: Manufacturer URL; ComponentLink1URL: http://www.ti.com/; ComponentLink2Description: Datasheet; ComponentLink2URL: http://www.ti.com/lit/ds/symlink/sn74abt8996.pdf
footprint PW0024A_N (SOP, 24-Leads, Body 7.9x4.5mm, Pitch 0.65mm, IPC Medium Density)
footprint PW0024A_M (SOP, 24-Leads, Body 7.9x4.5mm, Pitch 0.65mm, IPC Low Density)
footprint PW0024A_L (SOP, 24-Leads, Body 7.9x4.5mm, Pitch 0.65mm, IPC High Density)
pins: 1 A4 (in) "Address inputs. The ASP compares addresses received via shadow protocol against the value at A9-A0 to determine address match. The bit order is from most significant to least significant. An internal pullup at each A9-A0 (See Datasheet)", 2 A3 (in) "Address inputs. The ASP compares addresses received via shadow protocol against the value at A9-A0 to determine address match. The bit order is from most significant to least significant. An internal pullup at each A9-A0 (See Datasheet)", 3 A2 (in) "Address inputs. The ASP compares addresses received via shadow protocol against the value at A9-A0 to determine address match. The bit order is from most significant to least significant. An internal pullup at each A9-A0 (See Datasheet)", 4 A1 (in) "Address inputs. The ASP compares addresses received via shadow protocol against the value at A9-A0 to determine address match. The bit order is from most significant to least significant. An internal pullup at each A9-A0 (See Datasheet)", 5 A0 (in) "Address inputs. The ASP compares addresses received via shadow protocol against the value at A9-A0 to determine address match. The bit order is from most significant to least significant. An internal pullup at each A9-A0 (See Datasheet)", 6 ~{BYP} (in) "Bypass input. A low input at B\Y\P\ forces the ASP into BYP or BYP/TRST status, depending on P\T\R\S\T\ being high or low, respectively. While B\Y\P\ is low, shadow protocols are ignored. Otherwise, while B\Y\P\ is high, the (See Datasheet)", 7 GND (power) "Ground", 8 PTDO (hiz) "Primary test data output. PTDO transmits the TDO signal required by IEEE Standard 1149.1-1990. During shadow protocols, the ASP transmits any required acknowledgement via the PTDO. The acknowledgement data output at PTDO (See Datasheet)", 9 PTCK (in) "Primary test clock. PTCK receives the TCK signal required by IEEE Standard 1149.1-1990. The ASP always buffers PTCK to STCK. Shadow protocols are received/acknowledged synchronously to PTCK and connect-status changes invoked (See Datasheet)", 10 PTMS (in) "Primary test mode select. PTMS receives the TMS signal required by IEEE Standard 1149.1-1990. The ASP monitors the PTMS to determine the TAP-controller state. During stable TAP states other than Shift-DR or Shift-IR (i.e.(See Datasheet)", 11 PTDI (in) "Primary test data input. PTDI receives the TDI signal required by IEEE Standard 1149.1-1990. During appropriate TAP states, the ASP monitors PTDI for shadow protocols. During shadow protocols, data at PTDI is captured on the (See Datasheet)", 12 ~{PTRST} (in) "Primary test reset. P\T\R\S\T\ receives the T\R\S\T\ signal allowed by IEEE Standard 1149.1-1990. The ASP always buffers P\T\R\S\T\ to S\T\R\S\T\. A low input at PTRST forces the ASP to assume TRST or BYP/TRST status, (See Datasheet)", 13 ~{STRST} (out) "Secondary test reset. S\T\R\S\T\ retransmits the T\R\S\T\ signal allowed by IEEE Standard 1149.1-1990. The ASP always buffers S\T\R\S\T\ from P\T\R\S\T\.", 14 STDO (hiz) "Secondary test data output. STDO transmits the TDO signal required by IEEE Standard 1149.1-1990. Under BYP,BYP/TRST, MULTICAST, or ON status, the ASP buffers STDO from PTDI. Under OFF, RESET, or TRST status, STDO is at high (See Datasheet)", 15 STMS (out) "Secondary test mode select. STMS retransmits the TMS signal required by IEEE Standard 1149.1-1990. Under BYP,MULTICAST, or ON status, the ASP buffers STMS from PTMS. When disconnected (as a result of OFF status), STMS (See Datasheet)", 16 STCK (out) "Secondary test clock. STCK retransmits the TCK signal required by IEEE Standard 1149.1-1990. The ASP always buffers STCK from PTCK.", 17 STDI (in) "Secondary test data input. STDI receives the TDI signal required by IEEE Standard 1149.1-1990. Under BYP,BYP/TRST, or ON status, the ASP buffers STDI to PTDO. An internal pullup forces STDI to a high level if it has no (See Datasheet)", 18 ~{CON} (out) "Connect indicator (output). The ASP indicates secondary-scan-port activity (resulting from BYP, BYP/TRST,MULTICAST, or ON status) by forcing CON to be low. Inactivity (resulting from OFF, RESET, or TRST status) is indicated (See Datasheet)", 19 VCC (power) "Supply voltage", 20 A9 (in) "Address inputs. The ASP compares addresses received via shadow protocol against the value at A9-A0 to determine address match. The bit order is from most significant to least significant. An internal pullup at each A9-A0 (See Datasheet)", 21 A8 (in) "Address inputs. The ASP compares addresses received via shadow protocol against the value at A9-A0 to determine address match. The bit order is from most significant to least significant. An internal pullup at each A9-A0 (See Datasheet)", 22 A7 (in) "Address inputs. The ASP compares addresses received via shadow protocol against the value at A9-A0 to determine address match. The bit order is from most significant to least significant. An internal pullup at each A9-A0 (See Datasheet)", 23 A6 (in) "Address inputs. The ASP compares addresses received via shadow protocol against the value at A9-A0 to determine address match. The bit order is from most significant to least significant. An internal pullup at each A9-A0 (See Datasheet)", 24 A5 (in) "Address inputs. The ASP compares addresses received via shadow protocol against the value at A9-A0 to determine address match. The bit order is from most significant to least significant. An internal pullup at each A9-A0 (See Datasheet)"